# Altium footprint library 放大器1.PcbLib: 2 footprints
Each footprint in its own frame and in the unit in brackets; x right, y up, seen from the top. Pads: shape width x height; smd on the part's side, far side on the other; paste and mask are expansions set on the pad; w line width, h text height; cw(c..) or ccw(c..) is an arc to the next point about the centre after c.
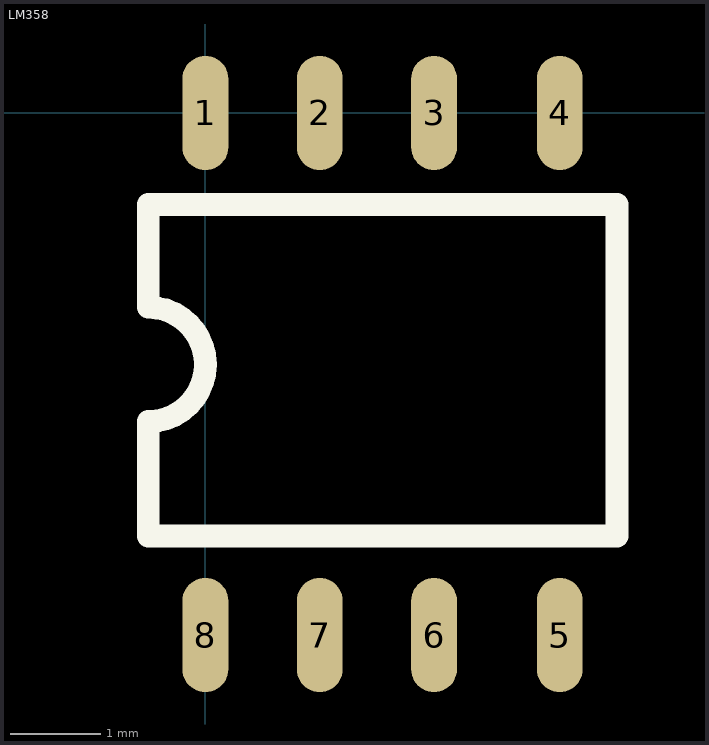
[diagram p0: the footprints below, top view; thin cyan lines are the x and y axes]

## LM358 [mm]
pads (8):
  oval 0.51x1.27 smd: 1(0,0) 2(1.27,0) 3(2.54,0) 4(3.937,0) 5(3.937,-5.8) 6(2.54,-5.8) 7(1.27,-5.8) 8(0,-5.8)
Top Overlay:
  lines w0.254: -0.635,-4.699 -0.635,-3.429 ccw(c-0.635,-2.794) 0,-2.794 ccw(c-0.635,-2.794) -0.635,-2.159 -0.635,-1.016 4.572,-1.016 4.572,-4.699 -0.635,-4.699

## PCBComponent_1 [mil]